# Altium footprint library SparkFun-Passives.PCBLIB: 102 footprints (part 3 of 7)
Each footprint in its own frame and in the unit in brackets; x right, y up, seen from the top. Pads: shape width x height; smd on the part's side, far side on the other; paste and mask are expansions set on the pad; w line width, h text height; cw(c..) or ccw(c..) is an arc to the next point about the centre after c.
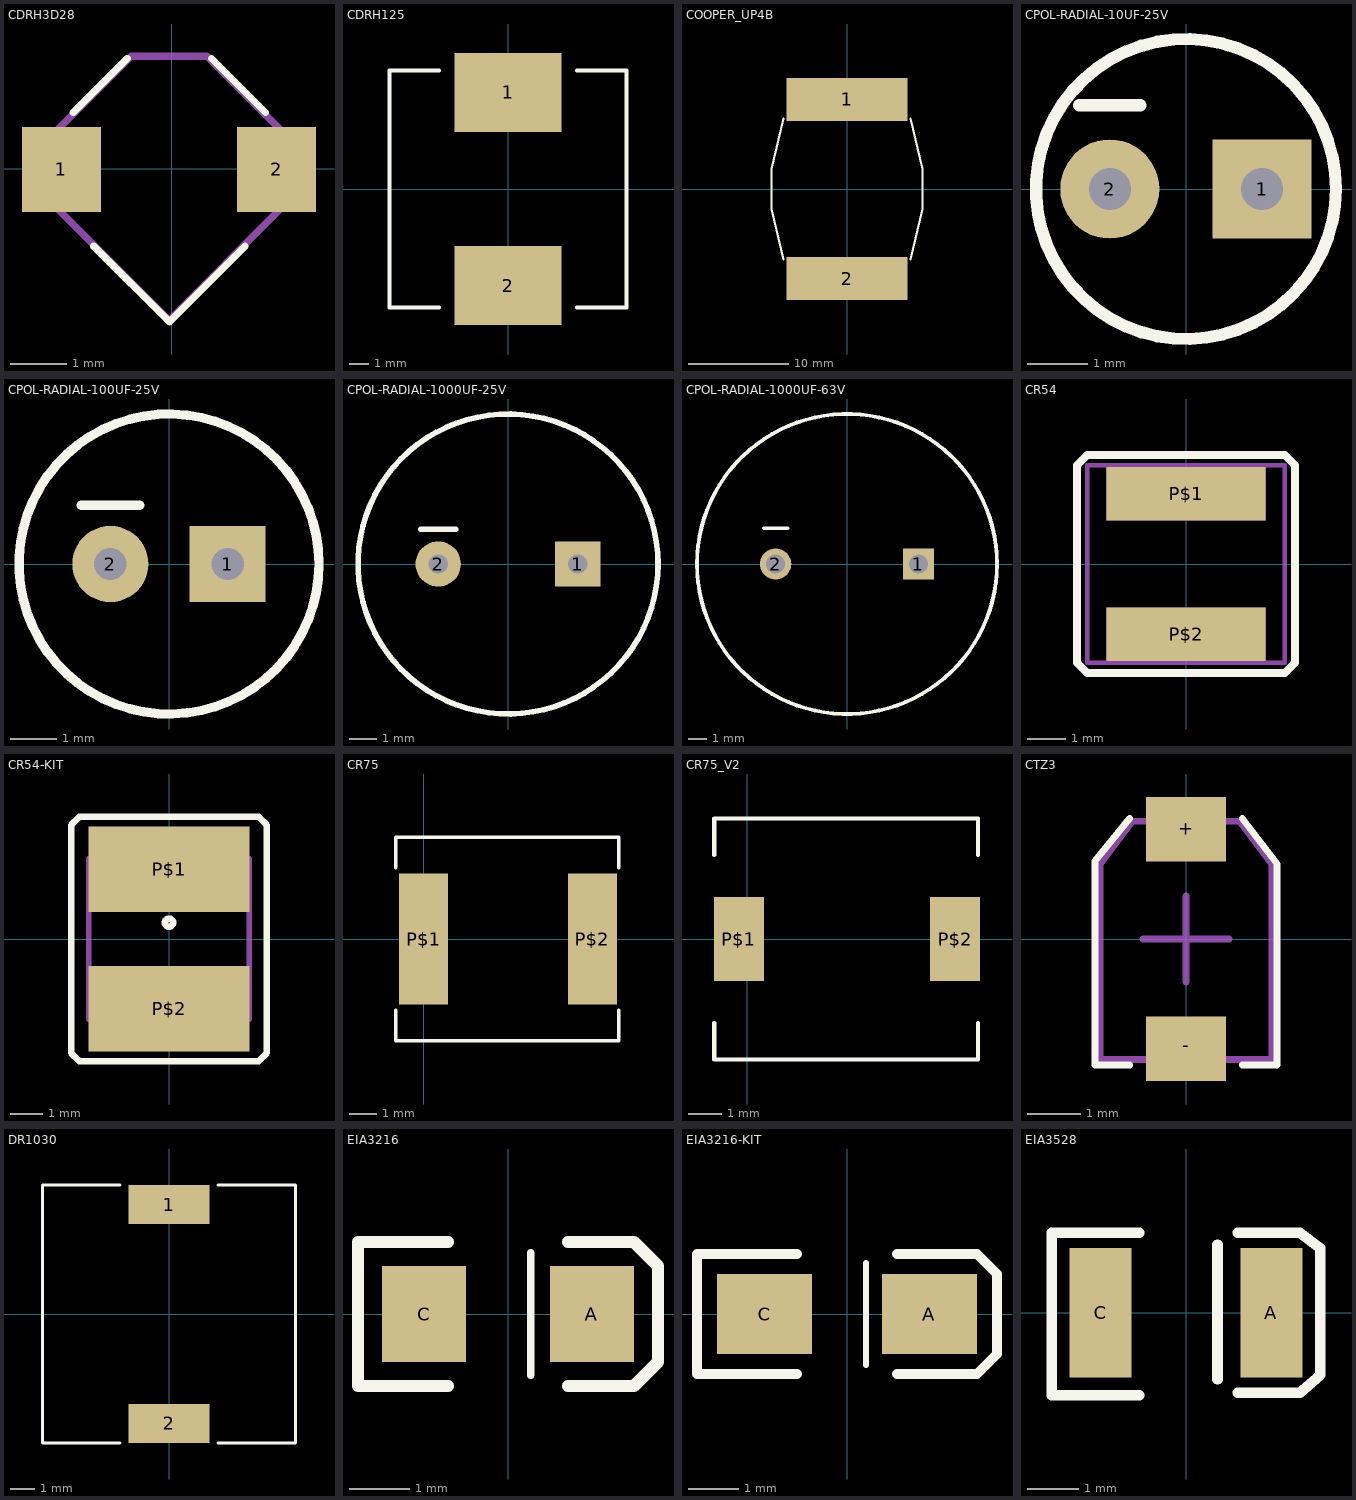
[diagram p2: the footprints below, top view; thin cyan lines are the x and y axes]

## CDRH3D28 [mil]
pads (2):
  rect 55.12x59.06 smd: 1(-76.79,-0.28) 2(72.8,-0.28)
Top Overlay:
  lines w5: -68.64,39.37 -31.08,76.93 ; -54.27,-53.74 -1.72,-106.3 50.84,-53.74 ; 27.65,76.92 65.21,39.37
Mechanical 16:
  lines w5: -80.72,-26.65 -80.73,26.1 -28.37,78.45 24.38,78.45 76.74,26.09 76.74,-26.65 ; -80.45,-26.77 -2.11,-105.11 ; -1.99,-105.31 76.78,-26.52

## CDRH125 [mm]
pads (2):
  rect 5.4x4 smd: 1(0,4.9) 2(0,-4.9)
Top Overlay:
  lines w0.203: -3.5,-6 -6,-6 -6,6 -3.5,6 ; 3.5,-6 6,-6 6,6 3.5,6

## COOPER_UP4B [mil]
pads (2):
  rect 472.44x169.29 smd: 1(0,350.39) 2(0,-350.39)
Top Overlay:
  lines w8: -248.03,-275.59 -295.28,-78.74 -295.28,78.74 -248.03,275.59 ; 248.03,-275.59 295.28,-78.74 295.28,78.74 248.03,275.59

## CPOL-RADIAL-10UF-25V [mil]
pads (2):
  rect 65x65 hole 27.56: 1(50,0)
  round 65 hole 27.56: 2(-50,0)
Top Overlay:
  circle w8: c0,0 r98.43
  lines w8: -70,55 -30,55

## CPOL-RADIAL-100UF-25V [mil]
pads (2):
  rect 65x65 hole 27.56: 1(50,0)
  round 65 hole 27.56: 2(-50,0)
Top Overlay:
  circle w8: c0,0 r127.95
  lines w8: -75,50 -25,50

## CPOL-RADIAL-1000UF-25V [mil]
pads (2):
  rect 65x65 hole 27.56: 1(100,0)
  round 65 hole 27.56: 2(-100,0)
Top Overlay:
  circle w8: c0,0 r215
  lines w8: -125,50 -75,50

## CPOL-RADIAL-1000UF-63V [mil]
pads (2):
  rect 65x65 hole 40: 1(150,0)
  round 66 hole 40: 2(-150,0)
Top Overlay:
  circle w8: c0,0 r315
  lines w8: -175,75 -125,75

## CR54 [mil]
pads (2):
  rect 165.35x55.12 smd: P$1(0,72.83) P$2(0,-72.83)
Top Overlay:
  lines w8: -112.99,-102.36 -112.99,102.36 -102.36,112.99 102.36,112.99 112.99,102.36 112.99,-102.36 102.36,-112.99 -102.36,-112.99 -112.99,-102.36
Mechanical 16:
  rectangle: -82.68,45.28 82.68,100.39
  rectangle: -82.68,-100.39 82.68,-45.28
  lines w5: -102.36,-102.36 -102.36,102.36 102.36,102.36 102.36,-102.36 -102.36,-102.36

## CR54-KIT [mm]
pads (2):
  rect 5x2.65 smd: P$1(0,2.17) P$2(0,-2.17)
Top Overlay:
  circle w0.203: c0,0.508 r0.127
  lines w0.203: -3.048,-3.548 -2.794,-3.802 2.794,-3.802 3.048,-3.548 3.048,3.548 2.794,3.802 -2.794,3.802 -3.048,3.548 -3.048,-3.548
Mechanical 16:
  lines w0.178: -2.5,-2.5 -2.5,2.5 2.5,2.5 2.5,-2.5 -2.5,-2.5

## CR75 [mm]
pads (2):
  rect 1.75x4.7 smd: P$1(0,0) P$2(6.05,0)
Top Overlay:
  lines w0.127: -1,-2.55 -1,-3.65 7,-3.65 7,-2.55 ; -1,2.55 -1,3.65 7,3.65 7,2.55

## CR75_V2 [mil]
pads (2):
  rect 60x100 smd: P$1(-10,0) P$2(248.19,0)
Top Overlay:
  lines w5: -39.37,-100.39 -39.37,-143.7 275.59,-143.7 275.59,-100.39 ; -39.37,100.39 -39.37,143.7 275.59,143.7 275.59,100.39

## CTZ3 [mil]
pads (2):
  rect 59.06x47.24 smd: +(0,80.71) -(0,-80.71)
Top Overlay:
  lines w5: -41.34,-92.52 -66.93,-92.52 -66.93,57.09 -41.34,88.58 ; 41.34,-92.52 66.93,-92.52 66.93,55.12 41.34,88.58
Mechanical 16:
  lines w5: -31.5,0 31.5,0 ; -19.69,0 19.69,0 ; 0,-31.5 0,31.5 ; -62.99,-88.58 -62.99,55.12 -39.37,86.61 39.37,86.61 62.99,55.12 62.99,-88.58 -62.99,-88.58

## DR1030 [mil]
pads (2):
  rect 129.92x62.99 smd: 1(0,175.2) 2(0,-175.2)
Top Overlay:
  lines w5: -78.74,-206.69 -202.76,-206.69 -202.76,206.69 -78.74,206.69 ; 78.74,-206.69 202.76,-206.69 202.76,206.69 78.74,206.69

## EIA3216 [mil]
pads (2):
  rect 55.12x62.99 smd: A(55.12,0) C(-55.12,0)
Top Overlay:
  lines w5: 15,-40 15,40
  lines w8: -39.37,-47.24 -98.43,-47.24 -98.43,47.24 -39.37,47.24 ; 39.37,-47.24 82.68,-47.24 98.43,-31.5 98.43,31.5 82.68,47.24 39.37,47.24

## EIA3216-KIT [mm]
pads (2):
  rect 1.9x1.6 smd: A(1.65,0) C(-1.65,0)
Top Overlay:
  lines w0.127: 0.381,-1.016 0.381,1.016
  lines w0.203: -1,-1.2 -3,-1.2 -3,1.2 -1,1.2 ; 1,-1.2 2.6,-1.2 3,-0.8 3,0.8 2.6,1.2 1,1.2

## EIA3528 [mm]
pads (2):
  rect 1.2x2.5 smd: A(1.65,0) C(-1.65,0)
Top Overlay:
  lines w0.203: -0.9,-1.6 -2.6,-1.6 -2.6,1.55 -0.9,1.55 ; 0.609,-1.286 0.609,1.311 ; 1,-1.55 2.2,-1.55 2.6,-1.2 2.6,1.25 2.2,1.55 ; 2.2,1.55 1,1.55 2.2,1.55